# EAGLE library part PCA9518A (library _RoweTel)
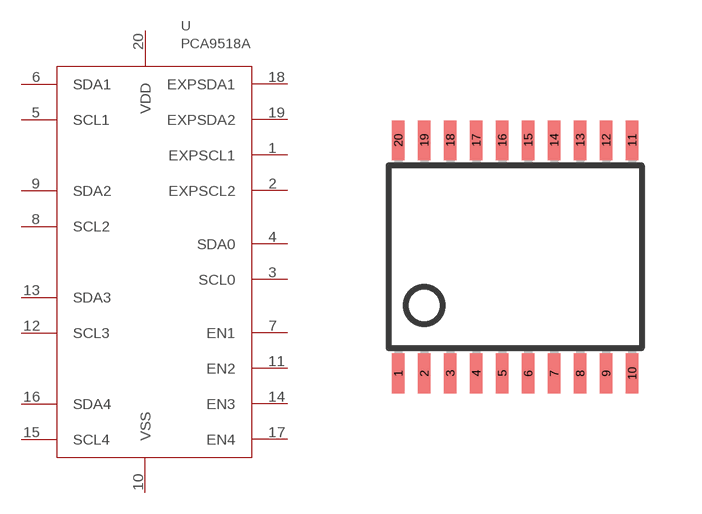
[diagram p49: symbol with the pads of TSSOP20; footprint TSSOP20]

Designator prefix U

## PCA9518A  [TSSOP20]
1  EXPSCL1
2  EXPSCL2
3  SCL0
4  SDA0
5  SCL1
6  SDA1
7  EN1
8  SCL2
9  SDA2
10  VSS
11  EN2
12  SCL3
13  SDA3
14  EN3
15  SCL4
16  SDA4
17  EN4
18  EXPSDA1
19  EXPSDA2
20  VDD

## Footprint TSSOP20 (pad centres in mm)
smd 0.305 x 0.991: 1 -2.925,-2.918; 2 -2.275,-2.918; 3 -1.625,-2.918; 4 -0.975,-2.918; 5 -0.325,-2.918; 6 0.325,-2.918; 7 0.975,-2.918; 8 1.625,-2.918; 9 2.275,-2.918; 10 2.925,-2.918; 11 2.925,2.918; 12 2.275,2.918; 13 1.625,2.918; 14 0.975,2.918; 15 0.325,2.918; 16 -0.325,2.918; 17 -0.975,2.918; 18 -1.625,2.918; 19 -2.275,2.918; 20 -2.925,2.918